# Altium footprint library Transformers.PcbLib: 31 footprints (part 2 of 2)
Each footprint in its own frame and in the unit in brackets; x right, y up, seen from the top. Pads: shape width x height; smd on the part's side, far side on the other; paste and mask are expansions set on the pad; w line width, h text height; cw(c..) or ccw(c..) is an arc to the next point about the centre after c.
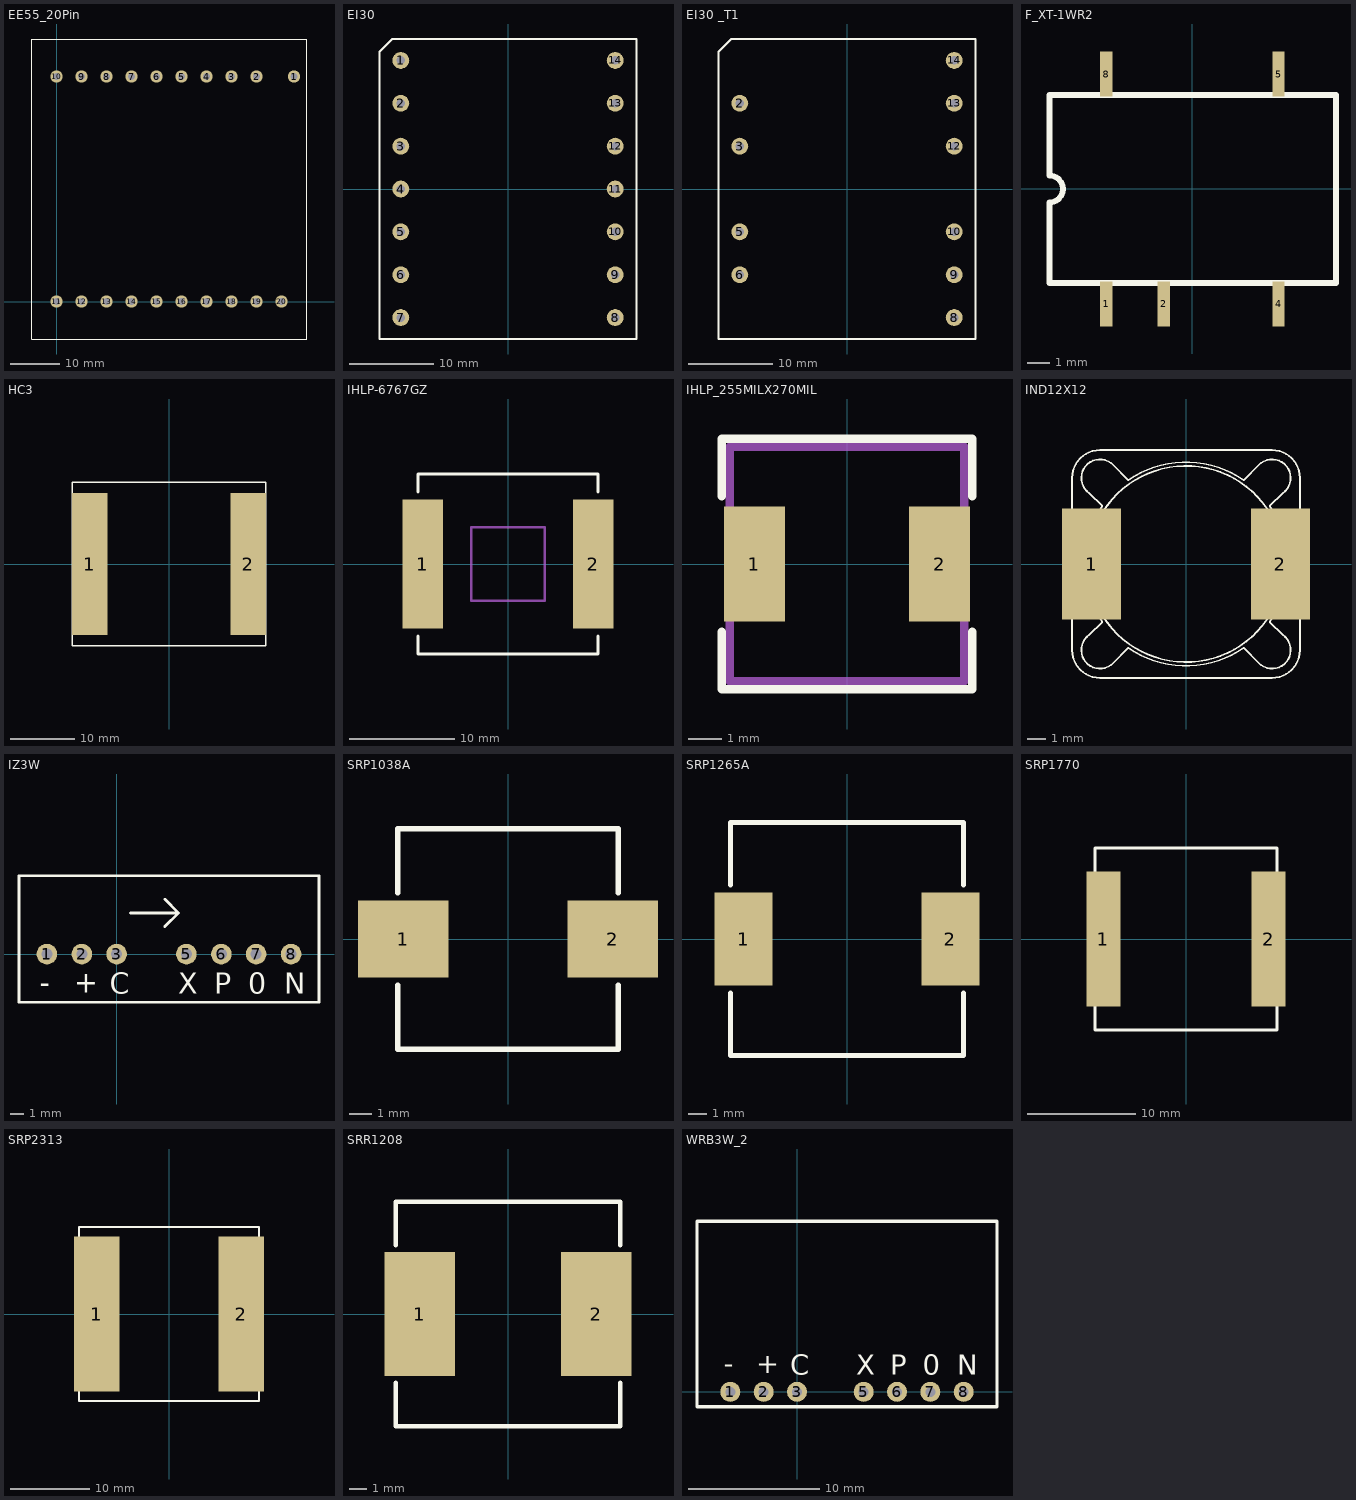
[diagram p1: the footprints below, top view; thin cyan lines are the x and y axes]

## EE55_20Pin [mm]
pads (20):
  round 2.5 hole 1.5: 1(48.26,45.72) 2(40.64,45.72) 3(35.56,45.72) 4(30.48,45.72) 5(25.4,45.72) 6(20.32,45.72) 7(15.24,45.72) 8(10.16,45.72) 9(5.08,45.72) 10(0,45.72) 11(0,0) 12(5.08,0) 13(10.16,0) 14(15.24,0) 15(20.32,0) 16(25.4,0) 17(30.48,0) 18(35.56,0) 19(40.64,0) 20(45.72,0)
Top Overlay:
  lines w0.254: -5.08,-7.62 -5.08,53.34 50.8,53.34 50.8,-7.62 -5.08,-7.62

## EI30 [mm]
pads (14):
  round 2 hole 1: 1(-12.7,15.24) 2(-12.7,10.16) 3(-12.7,5.08) 4(-12.7,0) 5(-12.7,-5.08) 6(-12.7,-10.16) 7(-12.7,-15.24) 8(12.7,-15.24) 9(12.7,-10.16) 10(12.7,-5.08) 11(12.7,0) 12(12.7,5.08) 13(12.7,10.16) 14(12.7,15.24)
Top Overlay:
  lines w0.254: -15.24,-17.78 15.24,-17.78 15.24,17.78 -13.716,17.78 -15.24,16.256 -15.24,-17.78

## EI30 _T1 [mm] "电子变压器 6p14"
pads (10):
  round 2 hole 1: 2(-12.7,10.16) 3(-12.7,5.08) 5(-12.7,-5.08) 6(-12.7,-10.16) 8(12.7,-15.24) 9(12.7,-10.16) 10(12.7,-5.08) 12(12.7,5.08) 13(12.7,10.16) 14(12.7,15.24)
Top Overlay:
  lines w0.254: -15.24,-17.78 -15.24,16.256 -13.716,17.78 15.24,17.78 15.24,-17.78 -15.24,-17.78

## F_XT-1WR2 [mm]
pads (5):
  rect 0.55x2 smd: 1(-3.81,-5.08) 2(-1.27,-5.08) 4(3.81,-5.08) 5(3.81,5.08) 8(-3.81,5.08)
Top Overlay:
  lines w0.254: -6.31,-4.15 6.35,-4.15 6.35,4.15 -6.31,4.15 -6.31,0.595 cw(c-6.31,0) -6.31,-0.595 -6.31,-4.15

## HC3 [mm]
pads (2):
  rect 5.5x22 smd: 1(-12.25,0) 2(12.25,0)
Top Overlay:
  lines w0.254: -15,-12.65 15,-12.65 15,12.65 -15,12.65 -15,-12.65

## IHLP-6767GZ [mm]
pads (2):
  rect 3.825x12.32 smd: 1(-8.123,0) 2(8.123,0)
Top Overlay:
  lines w0.254: -8.575,-6.857 -8.575,-8.575 8.575,-8.575 8.575,-6.857 ; -8.575,6.857 -8.575,8.575 8.575,8.575 8.575,6.857
Mechanical 29:
  lines w0.254: -3.5,-3.5 -3.5,3.5 3.5,3.5 3.5,-3.5 -3.5,-3.5
  text ".Designator" at 1,0.7 h1.52
3D body: height 2, standoff 0, extent 8.5,-5.97 9.008,5.97
3D body: height 2, standoff 0, extent -9.008,-5.97 -8.5,5.97
3D body: height 3, standoff 0, extent -7.977,-8.575 7.977,8.575
3D body: height 3, standoff 0, extent 7.38,-8.575 8.575,-7.377
3D body: height 3, standoff 0, extent 7.377,7.38 8.575,8.575
3D body: height 3, standoff 0, extent -8.575,7.38 -7.377,8.575
3D body: height 3, standoff 0, extent -8.575,-8.575 -7.38,-7.377
3D body: height 3, standoff 0, extent -8.577,-7.976 -7.978,7.98
3D body: height 3, standoff 0, extent 7.976,-7.976 8.575,7.98

## IHLP_255MILX270MIL [mil]
pads (2):
  rect 72x135 smd: 1(-109,0) 2(109,0)
Top Overlay:
  lines w10: -147.64,-80 -147.64,-147.64 147.64,-147.64 147.64,-80 ; -147.64,80 -147.64,147.64 147.64,147.64 147.64,80
Mechanical 29:
  lines w10: -137.8,-137.8 -137.8,137.8 137.8,137.8 137.8,-137.8 -137.8,-137.8
  text ".Designator" at 39.37,27.56 h60
3D body: height 118.11, standoff 0, extent -95.72,-130 95.77,130.01
3D body: height 78.74, standoff 0, extent 119.34,-62.92 135.09,63.06
3D body: height 78.74, standoff 0, extent -134.93,-62.92 -119.18,63.07
3D body: height 118.11, standoff 0, extent -119.25,-106.42 -95.53,106.57
3D body: height 118.11, standoff 0, extent 95.63,-106.43 119.34,106.57
3D body: height 118.11, standoff 0, extent 72.2,-130 119.25,-82.85
3D body: height 118.11, standoff 0, extent 72.19,82.95 119.34,130.01
3D body: height 118.11, standoff 0, extent -119.25,82.94 -72.1,130
3D body: height 118.11, standoff 0, extent -119.25,-130 -72.19,-82.85

## IND12X12 [mm]
pads (2):
  rect 3.2x6 smd: 1(-5.1,0) 2(5.1,0)
Top Overlay:
  circle w0.1: c0,0 r5.3
  lines w0.1: -3.118,-4.533 -3.943,-5.357 cw(c-4.65,-4.65) -5.224,-3.831 -4.532,-3.139 -4.532,-3.117 cw(c0,0) -4.531,3.117 -4.531,3.138 -5.224,3.831 cw(c-4.65,4.65) -3.943,5.357 -3.118,4.533 ; -3.117,-4.531 ccw(c0,0) 3.117,-4.532 3.943,-5.357 ccw(c4.65,-4.65) 5.224,-3.831 4.532,-3.139 4.532,-3.117 ccw(c0,0) 4.531,3.117 4.531,3.138 5.224,3.831 ccw(c4.65,4.65) 3.943,5.357 3.117,4.531 ccw(c0,0) -3.117,4.531 ; -6.15,-4.65 ccw(c-4.65,-4.65) -4.65,-6.15 4.65,-6.15 ccw(c4.65,-4.65) 6.15,-4.65 6.15,4.65 ccw(c4.65,4.65) 4.65,6.15 -4.65,6.15 ccw(c-4.65,4.65) -6.15,4.65 -6.15,-4.65
3D body: height 4.6, standoff 0.05, extent -6.15,-6.15 6.15,6.15

## IZ3W [mm]
pads (7):
  round 1.5 hole 0.8: 1(-5.08,0) 2(-2.54,0) 3(0,0) 5(5.08,0) 6(7.62,0) 7(10.16,0) 8(12.7,0)
Top Overlay:
  lines w0.2: 1,3 4.5,3 ; 3.5,2 4.5,3 ; 3.5,4 4.5,3 ; 4.5,3 4.5,3 ; -7.115,-3.5 -7.115,0 -7.115,5.7 14.735,5.7 14.735,0 14.735,-3.5 -7.115,-3.5
  text "X" at 4.5,-2.9 h1.52
  text "0" at 9.6,-2.9 h1.52
  text "N" at 12.2,-2.9 h1.52
  text "P" at 7.1,-2.9 h1.52
  text "C" at -0.5,-2.9 h1.52
  text "-" at -5.6,-2.8 h1.52
  text "+" at -3.1,-2.8 h1.52
3D body: height 10.6, standoff 0.5, extent -7.115,-3.5 14.735,5.7

## SRP1038A [mm]
height 3.8
pads (2):
  rect 4.1x3.5 smd: 1(-4.75,0) 2(4.75,0)
Top Overlay:
  lines w0.254: -5,-2.1 -5,-5 5,-5 5,-2.1 ; -5,2.1 -5,5 5,5 5,2.1
3D body: height 2, standoff 0, extent 5.1,-1.5 5.6,1.5
3D body: height 3.8, standoff 0, extent -4.5,-5 4.5,5
3D body: height 2, standoff 0, extent -5.35,-1.7 -4.85,1.5
3D body: height 3.8, standoff 0, extent -5.106,-4.5 -4.502,4.502
3D body: height 3.8, standoff 0, extent 4.494,-4.5 5.098,4.502
3D body: height 3.8, standoff 0, extent 3.905,-4.999 5.1,-3.801
3D body: height 3.8, standoff 0, extent 3.901,3.8 5.099,4.995
3D body: height 3.8, standoff 0, extent -5.099,3.8 -3.901,4.995
3D body: height 3, standoff 0, extent -5.095,-4.999 -3.9,-3.801

## SRP1265A [mm]
height 6.2
pads (2):
  rect 3.1x5 smd: 1(-5.55,0) 2(5.55,0)
Top Overlay:
  lines w0.254: -6.25,-2.9 -6.25,-6.25 6.25,-6.25 6.25,-2.9 ; -6.25,2.9 -6.25,6.25 6.25,6.25 6.25,2.9
3D body: height 3, standoff 0, extent 5.251,5.25 6.249,6.246
3D body: height 3, standoff 0, extent -6.246,-6.249 -5.25,-5.251
3D body: height 3, standoff 0, extent 5.254,-6.249 6.25,-5.251
3D body: height 3, standoff 0, extent -6.249,5.25 -5.251,6.246
3D body: height 6.2, standoff 0, extent 5.442,-5.75 6.25,5.752
3D body: height 6.2, standoff 0, extent -6.251,-5.75 -5.452,5.75
3D body: height 6.2, standoff 0, extent -5.75,-6.25 5.75,6.25
3D body: height 3.1, standoff 0, extent -6.75,-2.35 -6.25,2.35
3D body: height 3.1, standoff 0, extent 6.25,-2.35 6.75,2.35

## SRP1770 [mm]
pads (2):
  rect 3.15x12.5 smd: 1(-7.675,0) 2(7.675,0)
Top Overlay:
  lines w0.254: -8.45,-8.45 -8.45,8.45 8.45,8.45 8.45,-8.45 -8.45,-8.45
Bottom Overlay:
  lines w0.254: -8.65,-5.95 -8.65,5.95 -6.35,5.95 -6.35,-5.95 -8.65,-5.95 ; 6.35,-5.95 6.35,5.95 8.65,5.95 8.65,-5.95 6.35,-5.95
3D body: height 6.7, standoff 0, extent 7.898,-7.9 8.45,7.902
3D body: height 6.7, standoff 0, extent -7.9,-8.45 7.9,8.45
3D body: height 6.7, standoff 0, extent -8.45,7.255 -7.252,8.45
3D body: height 6.7, standoff 0, extent -8.45,-8.45 -7.255,-7.252
3D body: height 6.7, standoff 0, extent 7.255,-8.45 8.45,-7.252
3D body: height 6.7, standoff 0, extent 7.252,7.255 8.45,8.45
3D body: height 6.7, standoff 0, extent -8.452,-7.9 -7.9,7.902
3D body: height 3, standoff 0, extent -8.65,-5.95 -6.35,5.95
3D body: height 3, standoff 0, extent 6.35,-5.95 8.65,5.95

## SRP2313 [mm]
pads (2):
  rect 5.75x19.6 smd: 1(-9.125,0) 2(9.125,0)
Top Overlay:
  lines w0.254: -11.35,-11 11.35,-11 11.35,11 -11.35,11 -11.35,-11
Bottom Overlay:
  lines w0.254: -11.75,-9.5 -6.75,-9.5 -6.75,9.5 -11.75,9.5 -11.75,-9.5 ; 6.75,-9.5 6.75,9.5 11.75,9.5 11.75,-9.5 6.75,-9.5
3D body: height 12.6, standoff 0, extent -11.355,-10.401 -10.751,10.405
3D body: height 12.6, standoff 0, extent -11.35,9.805 -10.152,11
3D body: height 12.6, standoff 0, extent 10.152,9.805 11.35,11
3D body: height 12.6, standoff 0, extent 10.155,-11 11.35,-9.802
3D body: height 12.6, standoff 0, extent -11.35,-11 -10.155,-9.802
3D body: height 6, standoff 0, extent 6.75,-9.5 11.75,9.5
3D body: height 6, standoff 0, extent -11.75,-9.5 -6.75,9.5
3D body: height 12.6, standoff 0, extent -10.755,-11 10.75,11
3D body: height 12.6, standoff 0, extent 10.747,-10.4 11.35,10.406

## SRR1208 [mm]
height 8.5
pads (2):
  rect 4x7 smd: 1(-5,0) 2(5,0)
Top Overlay:
  lines w0.254: -6.35,-3.9 -6.35,-6.35 6.35,-6.35 6.35,-3.9 ; -6.35,3.9 -6.35,6.35 6.35,6.35 6.35,3.9
3D body: height 8.5, standoff 0.1, extent 5.751,-5.751 6.35,5.755
3D body: height 8.5, standoff 0.1, extent -6.359,-5.751 -5.753,5.755
3D body: height 8.5, standoff 0.1, extent 5.155,-6.35 6.35,-5.152
3D body: height 8.5, standoff 0.1, extent 5.152,5.155 6.35,6.35
3D body: height 8.5, standoff 0.1, extent -6.35,-6.35 -5.155,-5.152
3D body: height 8.5, standoff 0.1, extent -6.35,5.155 -5.152,6.35
3D body: height 8.5, standoff 0.1, extent -5.752,-6.35 5.752,6.35

## WRB3W_2 [mil]
pads (7):
  round 60 hole 30: 1(-200,0) 2(-100,0) 3(0,0) 5(200,0) 6(300,0) 7(400,0) 8(500,0)
Top Overlay:
  lines w10: -300,-45 600,-45 600,511.81 -300,511.81 -300,-45
  text "+" at -122.05,55.12 h60
  text "-" at -220.47,55.12 h60
  text "C" at -19.68,51.18 h60
  text "P" at 279.53,51.18 h60
  text "N" at 480.31,51.18 h60
  text "0" at 377.95,51.18 h60
  text "X" at 177.17,51.18 h60